# EAGLE library part V6.0 (library Crofters)
V6.0 Used for online systems.
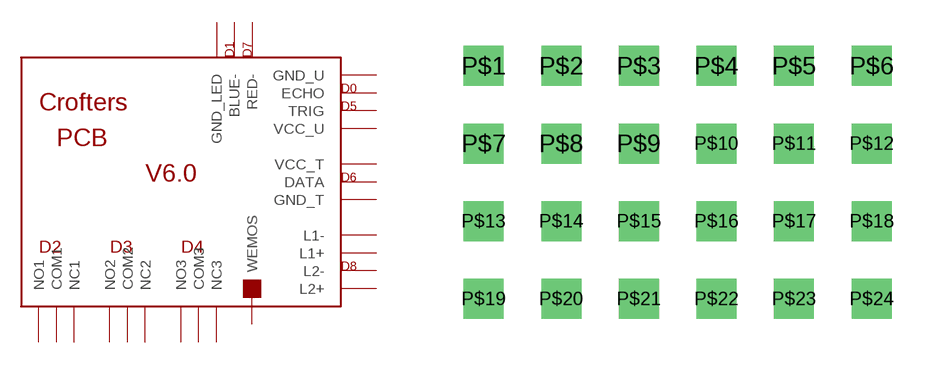
[diagram p0: symbol with the pads of V6.0; footprint V6.0]

Designator prefix -

## V6.0  [V6.0]
P$1  BLUE-
P$2  COM1
P$3  COM2
P$4  COM3
P$5  DATA
P$6  ECHO
P$7  GND_LED
P$8  GND_T
P$9  GND_U
P$10  L1+
P$11  L1-
P$12  L2+
P$13  L2-
P$14  NC1
P$15  NC2
P$16  NC3
P$17  NO1
P$18  NO2
P$19  NO3
P$20  RED-
P$21  TRIG
P$22  VCC_T
P$23  VCC_U
P$24  WEMOS

## Footprint V6.0 (pad centres in mm)
drill 0.8 square: P$1 -2.54,2.54; P$2 0,2.54; P$3 2.54,2.54; P$4 5.08,2.54; P$5 7.62,2.54; P$6 10.16,2.54; P$7 -2.54,0; P$8 0,0; P$9 2.54,0; P$10 5.08,0; P$11 7.62,0; P$12 10.16,0; P$13 -2.54,-2.54; P$14 0,-2.54; P$15 2.54,-2.54; P$16 5.08,-2.54; P$17 7.62,-2.54; P$18 10.16,-2.54; P$19 -2.54,-5.08; P$20 0,-5.08; P$21 2.54,-5.08; P$22 5.08,-5.08; P$23 7.62,-5.08; P$24 10.16,-5.08